# EAGLE library part AD8676 (library Marcell)
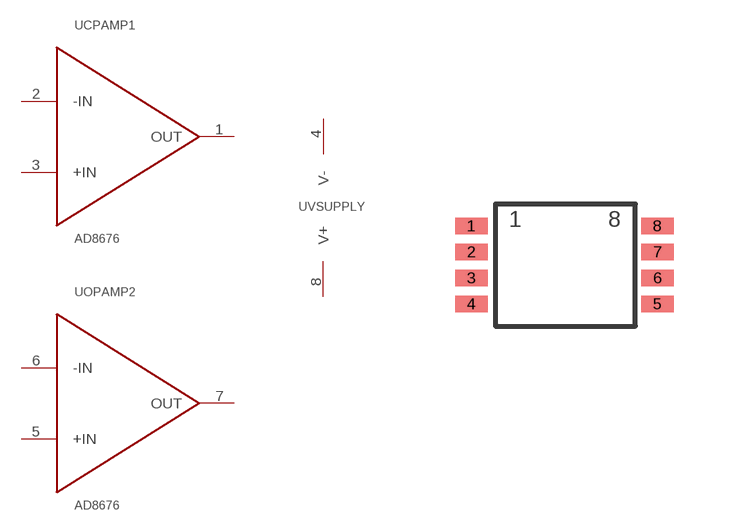
[diagram p3: symbol with the pads of MSOP08; footprint MSOP08]

Designator prefix -; gates VSUPPLY=V_SUPPLY+- CPAMP1=AD8676-SINGLE OPAMP2=AD8676-SINGLE

## AD8676  [MSOP08]
1  CPAMP1:OUT
2  CPAMP1:-IN
3  CPAMP1:+IN
4  VSUPPLY:V-  pwr
5  OPAMP2:+IN
6  OPAMP2:-IN
7  OPAMP2:OUT
8  VSUPPLY:V+  pwr

## Footprint MSOP08 (pad centres in mm)
smd 0.813 x 0.406: 1 -3.104,1.3; 2 -3.104,0.65; 3 -3.104,0; 4 -3.104,-0.65; 5 1.55,-0.65; 6 1.55,0; 7 1.55,0.65; 8 1.55,1.3